# EAGLE library part FIREBEETLE-ESP8266 (library Eagle_UOF_Lib)
Development Boards & Kits - Wireless FireBeetle ESP32 IOT MCU Source: Datasheet <https://github.com/Robert-MARKII/Document/blob/master/FireBeetle Board-ESP32 User Manual update.pdf>
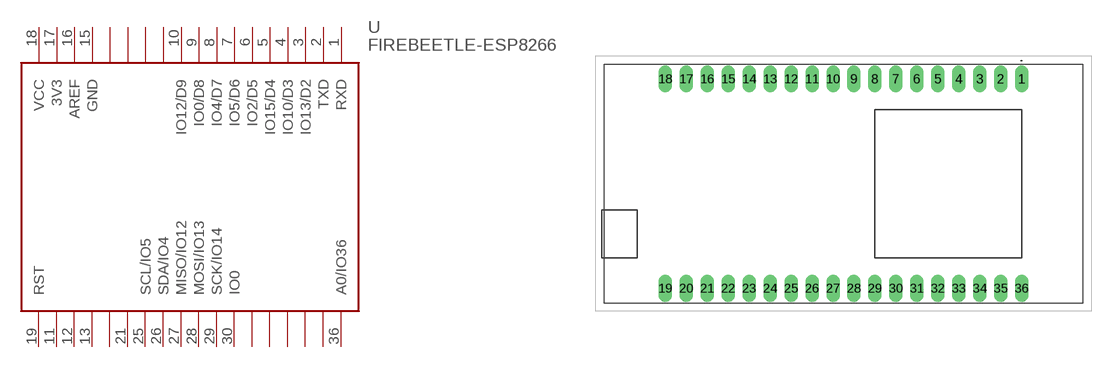
[diagram p1: symbol with the pads of FIREBEETLE_ESP8266; footprint FIREBEETLE_ESP8266]

Designator prefix U

## FIREBEETLE-ESP8266 (DESCRIPTION: Development Boards & Kits - Wireless FireBeetle ESP32 IOT MCU; HEIGHT: mm; MANUFACTURER_NAME: DFRobot; MANUFACTURER_PART_NUMBER: DFR0478; MOUSER_PART_NUMBER: 426-DFR0478; MOUSER_PRICE-STOCK: https://www.mouser.co.uk/ProductDetail/DFRobot/DFR0478?qs=EU6FO9ffTwc%252BR65h2NUGQw%3D%3D)  [FIREBEETLE_ESP8266]
1  RXD
2  TXD
3  IO13/D2
4  IO10/D3
5  IO15/D4
6  IO2/D5
7  IO5/D6
8  IO4/D7
9  IO0/D8
10  IO12/D9
11  NC
12  NC
13  NC
14  NC
15  GND
16  AREF
17  3V3
18  VCC
19  RST
20  NC  nc
21  NC
22  NC
23  NC
24  NC
25  SCL/IO5
26  SDA/IO4
27  MISO/IO12
28  MOSI/IO13
29  SCK/IO14
30  IO0
31  NC
32  NC
33  NC
34  NC
35  A1/IO39
36  A0/IO36

## Footprint FIREBEETLE_ESP8266 (pad centres in mm)
FireBeetle ESP8266
drill 1.016 pad 1.665 long: 1 25.4,12.7; 2 22.86,12.7; 3 20.32,12.7; 4 17.78,12.7; 5 15.24,12.7; 6 12.7,12.7; 7 10.16,12.7; 8 7.62,12.7; 9 5.08,12.7; 10 2.54,12.7; 11 0,12.7; 12 -2.54,12.7; 13 -5.08,12.7; 14 -7.62,12.7; 15 -10.16,12.7; 16 -12.7,12.7; 17 -15.24,12.7; 18 -17.78,12.7; 19 -17.78,-12.7; 20 -15.24,-12.7; 21 -12.7,-12.7; 22 -10.16,-12.7; 23 -7.62,-12.7; 24 -5.08,-12.7; 25 -2.54,-12.7; 26 0,-12.7; 27 2.54,-12.7; 28 5.08,-12.7; 29 7.62,-12.7; 30 10.16,-12.7; 31 12.7,-12.7; 32 15.24,-12.7; 33 17.78,-12.7; 34 20.32,-12.7; 35 22.86,-12.7; 36 25.4,-12.7